# EAGLE library part APDS-9960 (library SparkFun-Sensors)
Avago APDS-9960 Digital Proximity, Ambient Light, RGB, and Gesture Sensor. The APDS-9960 offers ambient light and color measuring, proximity detection, and touchless gesture sensing. It features UV and IR blocking filters, four separate diodes sensitive to different directions, and an I2C compatible interface. Datasheet <https://cdn.sparkfun.com/datasheets/Sensors/Proximity/apds9960.pdf> SparkFun Products SparkFun RGB and Gesture Sensor - APDS-9960 <https://www.sparkfun.com/products/12787> (SEN-12787)
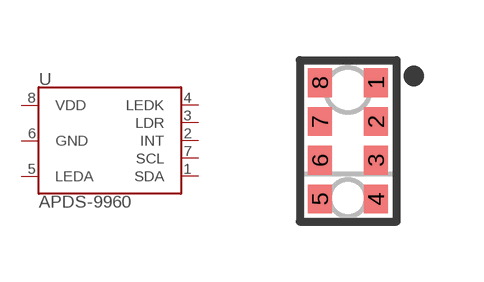
[diagram p19: symbol with the pads of APDS-9960; footprint APDS-9960]

Designator prefix U

## APDS-9960 (PROD_ID: SEN-12005)  [APDS-9960]
1  SDA
2  INT
3  LDR
4  LEDK
5  LEDA
6  GND
7  SCL
8  VDD

## Footprint APDS-9960 (pad centres in mm)
APDS-9960 Proximity, Light, RGB, Gesture Sensor Datasheet <https://cdn.sparkfun.com/datasheets/Sensors/Proximity/apds9960.pdf> Specifications: Pin Count: 8 Dimensions: 3.94 x 2.36 x 1.35 mm Pitch: 0.97 mm Devices Using: APDS-9960
smd 0.6 x 0.72: 1 0.7,1.455; 2 0.7,0.485; 3 0.7,-0.485; 4 0.7,-1.455; 5 -0.7,-1.455; 6 -0.7,-0.485; 7 -0.7,0.485; 8 -0.7,1.455